# EAGLE library part MAX21000 (library odroid_shield)
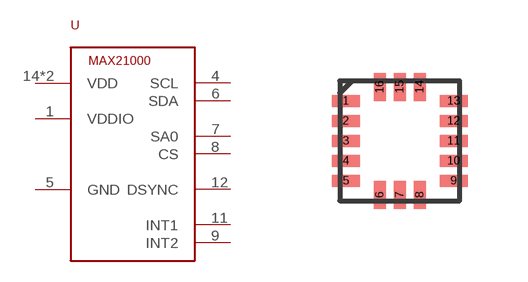
[diagram p8: symbol with the pads of LGA16; footprint LGA16]

Designator prefix -

## MAX21000  [LGA16]
1  VDDIO
4  SCL
5  GND
6  SDA
7  SA0
8  CS
9  INT2
11  INT1
12  DSYNC
14  VDD
15  VDD

## Footprint LGA16 (pad centres in mm)
smd 0.7 x 0.3: 1 -1.35,1; 2 -1.35,0.5; 3 -1.35,0; 4 -1.35,-0.5; 5 -1.35,-1; 9 1.35,-1; 10 1.35,-0.5; 11 1.35,0; 12 1.35,0.5; 13 1.35,1
smd 0.3 x 0.7: 6 -0.5,-1.35; 7 0,-1.35; 8 0.5,-1.35; 14 0.5,1.35; 15 0,1.35; 16 -0.5,1.35